# EAGLE library part EA_EDIPTFT43-A_I2C (library ea_v66)
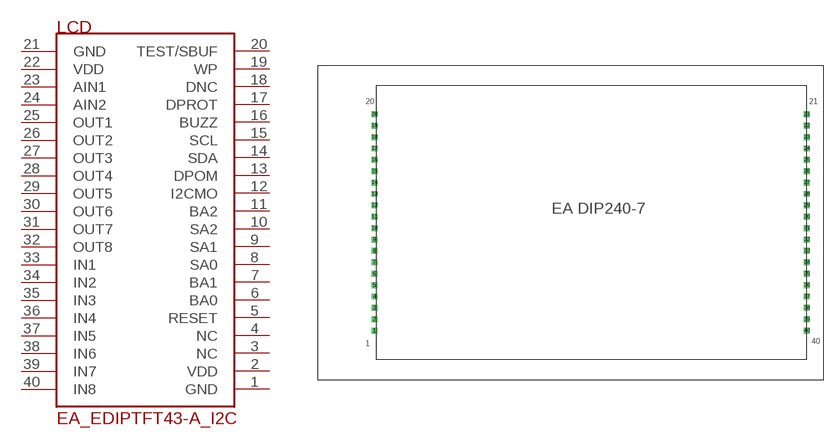
[diagram p13: symbol with the pads of EA_DIP240-7; footprint EA_DIP240-7]

Designator prefix LCD

## EA_EDIPTFT43-A_I2C  [EA_DIP240-7]
1  GND  pwr
2  VDD  pwr
3  NC  nc
4  NC  nc
5  RESET  in
6  BA0  in
7  BA1  in
8  SA0  in
9  SA1  in
10  SA2  in
11  BA2  in
12  I2CMO  in
13  DPOM  in
14  SDA
15  SCL  in
16  BUZZ  out
17  DPROT  in
18  DNC  nc
19  WP  in
20  TEST/SBUF
21  GND  pwr
22  VDD  pwr
23  AIN1  in
24  AIN2  in
25  OUT1  out
26  OUT2  out
27  OUT3  out
28  OUT4  out
29  OUT5  out
30  OUT6  out
31  OUT7  out
32  OUT8  out
33  IN1  in
34  IN2  in
35  IN3  in
36  IN4  in
37  IN5  in
38  IN6  in
39  IN7  in
40  IN8  in

## Footprint EA_DIP240-7 (pad centres in mm)
drill 0.813 square: 1 0,0; 2 0,2.54; 3 0,5.08; 4 0,7.62; 5 0,10.16; 6 0,12.7; 7 0,15.24; 8 0,17.78; 9 0,20.32; 10 0,22.86; 11 0,25.4; 12 0,27.94; 13 0,30.48; 14 0,33.02; 15 0,35.56; 16 0,38.1; 17 0,40.64; 18 0,43.18; 19 0,45.72; 20 0,48.26; 21 96.52,48.26; 22 96.52,45.72; 23 96.52,43.18; 24 96.52,40.64; 25 96.52,38.1; 26 96.52,35.56; 27 96.52,33.02; 28 96.52,30.48; 29 96.52,27.94; 30 96.52,25.4; 31 96.52,22.86; 32 96.52,20.32; 33 96.52,17.78; 34 96.52,15.24; 35 96.52,12.7; 36 96.52,10.16; 37 96.52,7.62; 38 96.52,5.08; 39 96.52,2.54; 40 96.52,0